# EAGLE library part 0528921095 (library molex)
Molex 0528921095 CONN FFC BOTTOM 10POS 0.50MM R/A
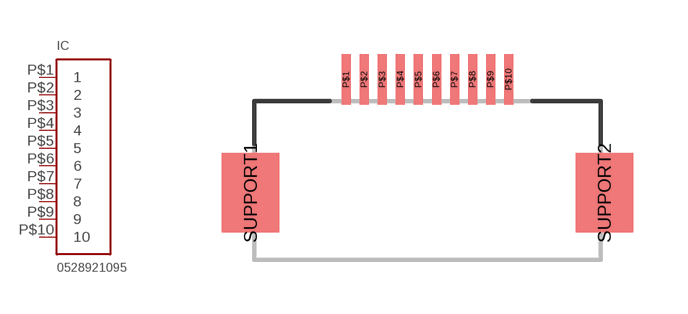
[diagram p0: symbol with the pads of FPC_10PIN_52892-1095; footprint FPC_10PIN_52892-1095]

Designator prefix IC

## 0528921095  [FPC_10PIN_52892-1095]
P$1  1  in
P$2  2  in
P$3  3  in
P$4  4  in
P$5  5  in
P$6  6  pwr
P$7  7  pwr
P$8  8  in
P$9  9  pwr
P$10  10  pwr

## Footprint FPC_10PIN_52892-1095 (pad centres in mm)
Source: http://www.molex.com/pdm_docs/sd/528921095_sd.pdf
smd 0.25 x 1.4: P$1 -2.25,0; P$2 -1.75,0; P$3 -1.25,0; P$4 -0.75,0; P$5 -0.25,0; P$6 0.25,0; P$7 0.75,0; P$8 1.25,0; P$9 1.75,0; P$10 2.25,0
smd 1.6 x 2.2: SUPPORT1 -4.9,-3.15; SUPPORT2 4.9,-3.15